# EAGLE library part CSD87350Q5D (library ruark2)
Mosfet Array 2 N-Channel (Dual) 30V 40A 12W Surface Mount 8-LSON (5x6)
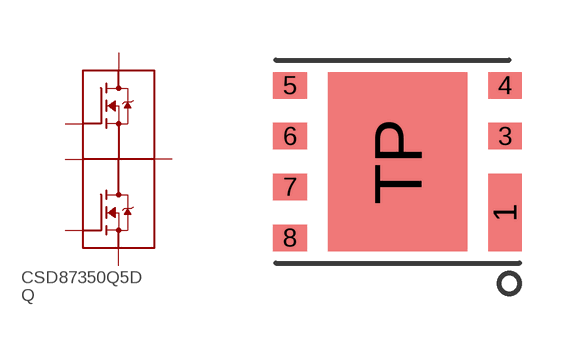
[diagram p136: symbol with the pads of 8LSON; footprint 8LSON]

Designator prefix Q

## CSD87350Q5D (PARTNO: 296-28318-1-ND)  [8LSON]
1  VIN  pas
3  TG  pas
4  TGR  pas
5  BG  pas
6  SW  pas
7  SW  pas
8  SW  pas
TP  PGND  pas

## Footprint 8LSON (pad centres in mm)
smd 0.838 x 1.93: 1 2.692,-1.27
smd 0.838 x 0.66: 3 2.692,0.635; 4 2.692,1.905; 5 -2.692,1.905; 6 -2.692,0.635; 7 -2.692,-0.635; 8 -2.692,-1.905
smd 3.48 x 4.47: TP 0,0